# EAGLE library part MAX3371 (library paparazzi)
single channel low voltage level translator
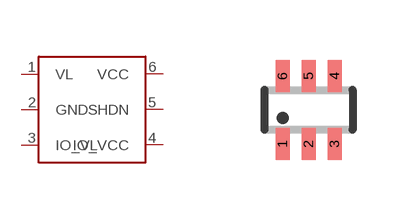
[diagram p10: symbol with the pads of SC70-6L; footprint SC70-6L]

Designator prefix -

## MAX3371  [SC70-6L]
1  VL
2  GND
3  IO_VL
4  IO_VCC
5  SHDN
6  VCC

## Footprint SC70-6L (pad centres in mm)
SC-70 Package
smd 0.35 x 0.8: 1 -0.65,-0.85; 2 0,-0.85; 3 0.65,-0.85; 4 0.65,0.85; 5 0,0.85; 6 -0.65,0.85